# Altium integrated library MMFTN20.IntLib: 1 symbol
Pins are listed as number, name and electrical type; pins without a type are passive.

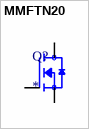
[diagram p0: symbol MMFTN20]

## MMFTN20
designator Q?
MOSFET, SOT-23, N, 50V, 0.1A, 15â„¦, 150Â°C; MF: Diotec Semiconductor; MP: MMFTN20; SnapEDA_Link: https://www.snapeda.com/parts/MMFTN20/Diotec/view-part/?ref=snap; Package: SOT-23 Diotec; Value: *; Check_prices: https://www.snapeda.com/parts/MMFTN20/Diotec/view-part/?ref=eda
footprint TRANS_MMFTN20
pins: 1 G, 2 S, 3 D